# EAGLE library part 68712014022 (library Eagle_FPC_CONNECTOR_AND_FFC_CAB (rev18c))
WR-FPC 0.5mm SMT ZIF Horizontal Top Contact, 20 Pins=>Code : Con_FPC_ZIF_0.50_68712014022 <http://katalog.we-online.de/media/images/eican/Con_FPC_ZIF_0.50_6871xx14022_pf2.jpg> Details see: http://katalog.we-online.de/en/em/687_1xx_140_22 Created 2014-07-09, Karrer Zheng 2014 (C) Würth Elektronik
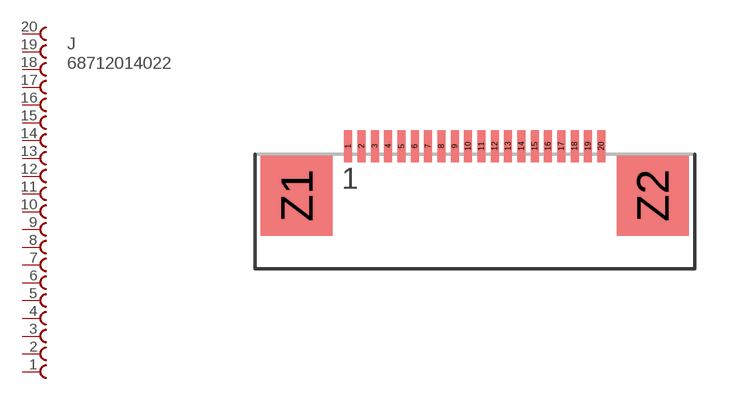
[diagram p0: symbol with the pads of 68712014022; footprint 68712014022]

Designator prefix J

## 68712014022  [68712014022]
1  20  pas
2  19  pas
3  18  pas
4  17  pas
5  16  pas
6  15  pas
7  14  pas
8  13  pas
9  12  pas
10  11  pas
11  10  pas
12  9  pas
13  8  pas
14  7  pas
15  6  pas
16  5  pas
17  4  pas
18  3  pas
19  2  pas
20  1  pas

## Footprint 68712014022 (pad centres in mm)
WR-FPC 0.5mm SMT ZIF Horizontal Top Contact, 20 Pins
smd 0.3 x 1.2: 1 -5.25,1.86; 2 -4.75,1.86; 3 -4.25,1.86; 4 -3.75,1.86; 5 -3.25,1.86; 6 -2.75,1.86; 7 -2.25,1.86; 8 -1.75,1.86; 9 -1.25,1.86; 10 -0.75,1.86; 11 -0.25,1.86; 12 0.25,1.86; 13 0.75,1.86; 14 1.25,1.86; 15 1.75,1.86; 16 2.25,1.86; 17 2.75,1.86; 18 3.25,1.86; 19 3.75,1.86; 20 4.25,1.86
smd 2.7 x 3: Z1 -7.18,0; Z2 6.18,0